# Altium schematic symbol library JYX-MA10.SchLib: 1 symbol
Pins are listed as number, name and electrical type; pins without a type are passive.

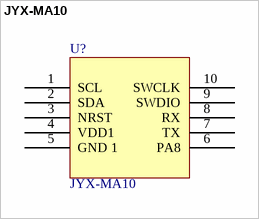
[diagram p0: symbol JYX-MA10]

## JYX-MA10
designator U?
footprint JYX-MA10
pins: 1 SCL, 2 SDA, 3 NRST, 4 VDD1, 5 GND 1, 6 PA8, 7 TX, 8 RX, 9 SWDIO, 10 SWCLK